# EAGLE library part BQ2013H (library Gas Gauges)
NiCd/NiMH/Lead-Acid Gas Gauge For High Discharge Rates (>10A), Pgmable Offset Error & Load Comp.
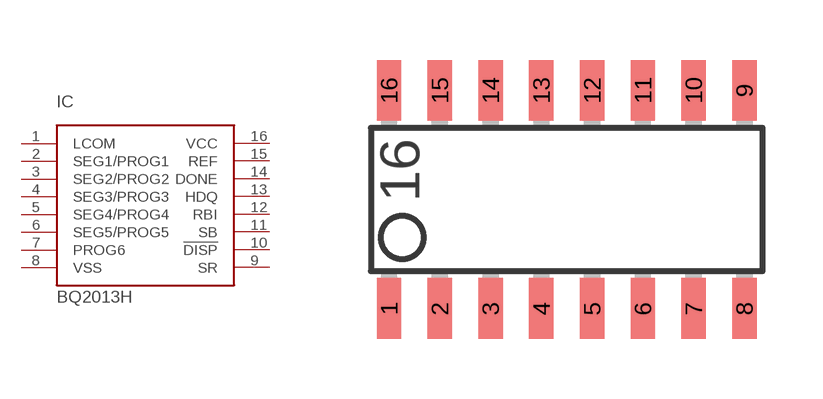
[diagram p0: symbol with the pads of SO-16; footprint SO-16]

Designator prefix IC

## BQ2013H  [SO-16]
1  LCOM
2  SEG1/PROG1
3  SEG2/PROG2
4  SEG3/PROG3
5  SEG4/PROG4
6  SEG5/PROG5
7  PROG6
8  VSS  pwr
9  SR
10  !DISP
11  SB
12  RBI
13  HDQ
14  DONE
15  REF
16  VCC

## Footprint SO-16 (pad centres in mm)
Small Outline Integrated Circuit
smd 0.61 x 1.524: 1 -4.445,-2.794; 2 -3.175,-2.794; 3 -1.905,-2.794; 4 -0.635,-2.794; 5 0.635,-2.794; 6 1.905,-2.794; 7 3.175,-2.794; 8 4.445,-2.794; 9 4.445,2.667; 10 3.175,2.667; 11 1.905,2.667; 12 0.635,2.667; 13 -0.635,2.667; 14 -1.905,2.667; 15 -3.175,2.667; 16 -4.445,2.667